# Altium schematic symbol library WCAP-ATG8_35V.SchLib: 9 symbols
Pins are listed as number, name and electrical type; pins without a type are passive.

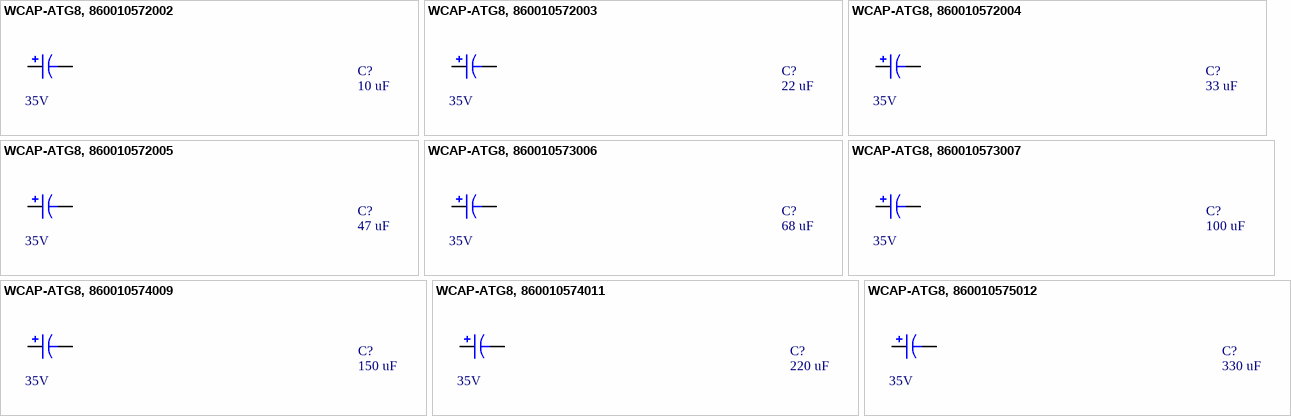
[diagram p0: symbols WCAP-ATG8, 860010572002 to WCAP-ATG8, 860010575012]

## WCAP-ATG8, 860010572002
designator C?, comment 10 uF  RatedVoltage: 35V
CAP Alu 10 UF 20% 35 V; Manufacturer: Wurth Elektronik; Manufacturer Part Number: 860010572002; PublishedDate: July 2016; ComponentLink1Description: Manufacturer; ComponentLink1URL: http://www.we-online.de; ComponentLink2Description: Datasheet; ComponentLink2URL: http://katalog.we-online.de/pbs/datasheet/860010572002.pdf; Value: 10 uF; Size: 5mmx11mm
footprint WCAP-ATG8_5x11x2x0.5
pins: 1, 2

## WCAP-ATG8, 860010572003
designator C?, comment 22 uF  RatedVoltage: 35V
CAP Alu 22 UF 20% 35 V; Manufacturer: Wurth Elektronik; Manufacturer Part Number: 860010572003; PublishedDate: July 2016; ComponentLink1Description: Manufacturer; ComponentLink1URL: http://www.we-online.de; ComponentLink2Description: Datasheet; ComponentLink2URL: http://katalog.we-online.de/pbs/datasheet/860010572003.pdf; Value: 22 uF; Size: 5mmx11mm
footprint WCAP-ATG8_5x11x2x0.5
pins: 1, 2

## WCAP-ATG8, 860010572004
designator C?, comment 33 uF  RatedVoltage: 35V
CAP Alu 33 UF 20% 35 V; Manufacturer: Wurth Elektronik; Manufacturer Part Number: 860010572004; PublishedDate: July 2016; ComponentLink1Description: Manufacturer; ComponentLink1URL: http://www.we-online.de; ComponentLink2Description: Datasheet; ComponentLink2URL: http://katalog.we-online.de/pbs/datasheet/860010572004.pdf; Value: 33 uF; Size: 5mmx11mm
footprint WCAP-ATG8_5x11x2x0.5
pins: 1, 2

## WCAP-ATG8, 860010572005
designator C?, comment 47 uF  RatedVoltage: 35V
CAP Alu 47 UF 20% 35 V; Manufacturer: Wurth Elektronik; Manufacturer Part Number: 860010572005; PublishedDate: July 2016; ComponentLink1Description: Manufacturer; ComponentLink1URL: http://www.we-online.de; ComponentLink2Description: Datasheet; ComponentLink2URL: http://katalog.we-online.de/pbs/datasheet/860010572005.pdf; Value: 47 uF; Size: 5mmx11mm
footprint WCAP-ATG8_5x11x2x0.5
pins: 1, 2

## WCAP-ATG8, 860010573006
designator C?, comment 68 uF  RatedVoltage: 35V
CAP Alu 68 UF 20% 35 V; Manufacturer: Wurth Elektronik; Manufacturer Part Number: 860010573006; PublishedDate: July 2016; ComponentLink1Description: Manufacturer; ComponentLink1URL: http://www.we-online.de; ComponentLink2Description: Datasheet; ComponentLink2URL: http://katalog.we-online.de/pbs/datasheet/860010573006.pdf; Value: 68 uF; Size: 6.3mmx11mm
footprint WCAP-ATG8_6.3x11x2.5x0.5
pins: 1, 2

## WCAP-ATG8, 860010573007
designator C?, comment 100 uF  RatedVoltage: 35V
CAP Alu 100UF 20% 35 V; Manufacturer: Wurth Elektronik; Manufacturer Part Number: 860010573007; PublishedDate: July 2016; ComponentLink1Description: Manufacturer; ComponentLink1URL: http://www.we-online.de; ComponentLink2Description: Datasheet; ComponentLink2URL: http://katalog.we-online.de/pbs/datasheet/860010573007.pdf; Value: 100 uF; Size: 6.3mmx11mm
footprint WCAP-ATG8_6.3x11x2.5x0.5
pins: 1, 2

## WCAP-ATG8, 860010574009
designator C?, comment 150 uF  RatedVoltage: 35V
CAP Alu 150 UF 20% 35 V; Manufacturer: Wurth Elektronik; Manufacturer Part Number: 860010574009; PublishedDate: July 2016; ComponentLink1Description: Manufacturer; ComponentLink1URL: http://www.we-online.de; ComponentLink2Description: Datasheet; ComponentLink2URL: http://katalog.we-online.de/pbs/datasheet/860010574009.pdf; Value: 150 uF; Size: 8mmx11.5mm
footprint WCAP-ATG8_8x11.5x3.5x0.5
pins: 1, 2

## WCAP-ATG8, 860010574011
designator C?, comment 220 uF  RatedVoltage: 35V
CAP Alu 220 UF 20% 35 V; Manufacturer: Wurth Elektronik; Manufacturer Part Number: 860010574011; PublishedDate: July 2016; ComponentLink1Description: Manufacturer; ComponentLink1URL: http://www.we-online.de; ComponentLink2Description: Datasheet; ComponentLink2URL: http://katalog.we-online.de/pbs/datasheet/860010574011.pdf; Value: 220 uF; Size: 8mmx11.5mm
footprint WCAP-ATG8_8x11.5x3.5x0.5
pins: 1, 2

## WCAP-ATG8, 860010575012
designator C?, comment 330 uF  RatedVoltage: 35V
CAP Alu 330 UF 20% 35 V; Manufacturer: Wurth Elektronik; Manufacturer Part Number: 860010575012; PublishedDate: July 2016; ComponentLink1Description: Manufacturer; ComponentLink1URL: http://www.we-online.de; ComponentLink2Description: Datasheet; ComponentLink2URL: http://katalog.we-online.de/pbs/datasheet/860010575012.pdf; Value: 330 uF; Size: 10mmx12.5mm
footprint WCAP-ATG8_10x12.5x5x0.6
pins: 1, 2